# Altium schematic symbol library nRF52840-QFAA-F-R7.SchLib: 1 symbol
Pins are listed as number, name and electrical type; pins without a type are passive.

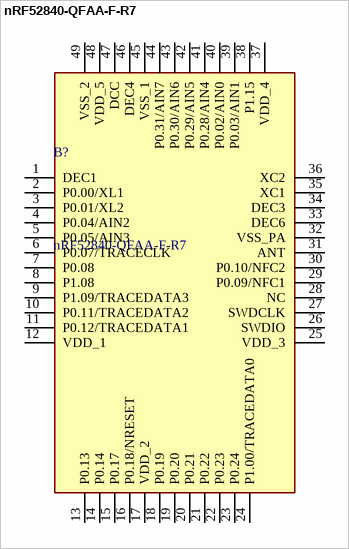
[diagram p0: symbol nRF52840-QFAA-F-R7]

## nRF52840-QFAA-F-R7
designator B?
RF System on a Chip - SoC Multiprotocol Bluetooth 5.3 SoC supporting Bluetooth Low Energy, Bluetooth mesh, NFC, Thread and Zigbee; Manufacturer_Name: Nordic Semiconductor; Geometry.Height: 0.95mm; Mouser Part Number: 949-NRF52840QFAAF-R7; Mouser Price/Stock: https://www.mouser.co.uk/ProductDetail/Nordic-Semiconductor/nRF52840-QFAA-F-R7?qs=TCDPyi3sCW2TA2kPWr8xHQ%3D%3D; Manufacturer_Part_Number: nRF52840-QFAA-F-R7; Datasheet Link: https://infocenter.nordicsemi.com/pdf/nRF52840_PS_v1.7.pdf
footprint QFN40P600X600X95-49N-D
pins: 1 DEC1, 2 P0.00/XL1, 3 P0.01/XL2, 4 P0.04/AIN2, 5 P0.05/AIN3, 6 P0.07/TRACECLK, 7 P0.08, 8 P1.08, 9 P1.09/TRACEDATA3, 10 P0.11/TRACEDATA2, 11 P0.12/TRACEDATA1, 12 VDD_1, 13 P0.13, 14 P0.14, 15 P0.17, 16 P0.18/NRESET, 17 VDD_2, 18 P0.19, 19 P0.20, 20 P0.21, 21 P0.22, 22 P0.23, 23 P0.24, 24 P1.00/TRACEDATA0, 25 VDD_3, 26 SWDIO, 27 SWDCLK, 28 NC, 29 P0.09/NFC1, 30 P0.10/NFC2, 31 ANT, 32 VSS_PA, 33 DEC6, 34 DEC3, 35 XC1, 36 XC2, 37 VDD_4, 38 P1.15, 39 P0.03/AIN1, 40 P0.02/AIN0, 41 P0.28/AIN4, 42 P0.29/AIN5, 43 P0.30/AIN6, 44 P0.31/AIN7, 45 VSS_1, 46 DEC4, 47 DCC, 48 VDD_5, 49 VSS_2